# Altium schematic symbol library Testpoint.SchLib: 1 symbol
Pins are listed as number, name and electrical type; pins without a type are passive.

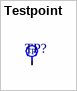
[diagram p0: symbol Testpoint]

## Testpoint
designator TP?  (value not drawn)
footprint Testpoint-Footprint-1
footprint Testpoint-Footprint-1
footprint Testpoint-Footprint-1
footprint Testpoint-Footprint-1
footprint Testpoint-Footprint-1
footprint Testpoint-Footprint-1
pins: 1
text: TP